# EAGLE library part LSM320DL (library LSM320DL)
LSM320DL Linear sensor module 3D accelerometer sensor and 2D gyroscope sensor
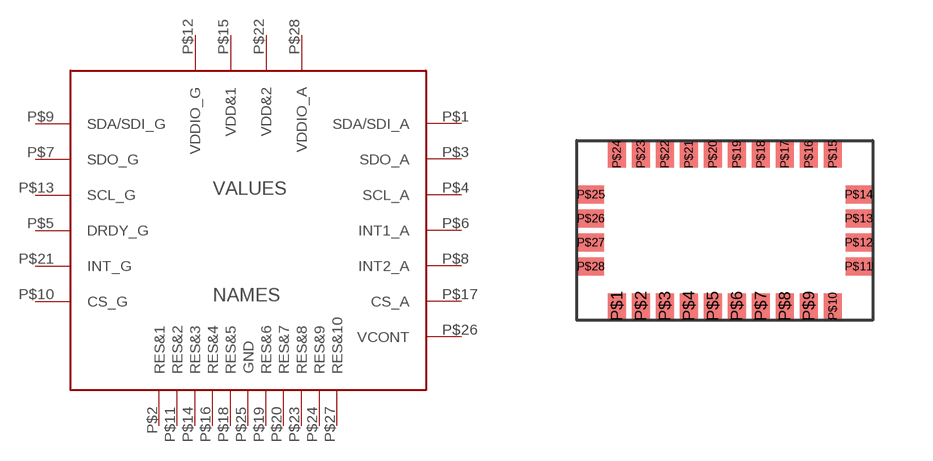
[diagram p0: symbol with the pads of LGA28L; footprint LGA28L]

Designator prefix -

## LSM320DL  [LGA28L]
P$1  SDA/SDI_A
P$2  RES&1  pwr
P$3  SDO_A
P$4  SCL_A  in
P$5  DRDY_G  out
P$6  INT1_A  out
P$7  SDO_G
P$8  INT2_A  out
P$9  SDA/SDI_G
P$10  CS_G  in
P$11  RES&2  pwr
P$12  VDDIO_G  pwr
P$13  SCL_G  in
P$14  RES&3  pwr
P$15  VDD&1  pwr
P$16  RES&4  pwr
P$17  CS_A  in
P$18  RES&5  pwr
P$19  RES&6  pwr
P$20  RES&7  pwr
P$21  INT_G  out
P$22  VDD&2  pwr
P$23  RES&8  pwr
P$24  RES&9  pwr
P$25  GND  pwr
P$26  VCONT
P$27  RES&10  pwr
P$28  VDDIO_A  pwr

## Footprint LGA28L (pad centres in mm)
smd 0.45 x 0.65: P$1 -2.7,-1.9; P$2 -2.1,-1.9; P$3 -1.5,-1.9; P$4 -0.9,-1.9; P$5 -0.3,-1.9; P$6 0.3,-1.9; P$7 0.9,-1.9; P$8 1.5,-1.9; P$9 2.1,-1.9; P$10 2.7,-1.9; P$15 2.7,1.9; P$16 2.1,1.9; P$17 1.5,1.9; P$18 0.9,1.9; P$19 0.3,1.9; P$20 -0.3,1.9; P$21 -0.9,1.9; P$22 -1.5,1.9; P$23 -2.1,1.9; P$24 -2.7,1.9
smd 0.65 x 0.45: P$11 3.35,-0.9; P$12 3.35,-0.3; P$13 3.35,0.3; P$14 3.35,0.9; P$25 -3.35,0.9; P$26 -3.35,0.3; P$27 -3.35,-0.3; P$28 -3.35,-0.9